# EAGLE library part SILABS_CP2102 (library johnmamish-silabs)
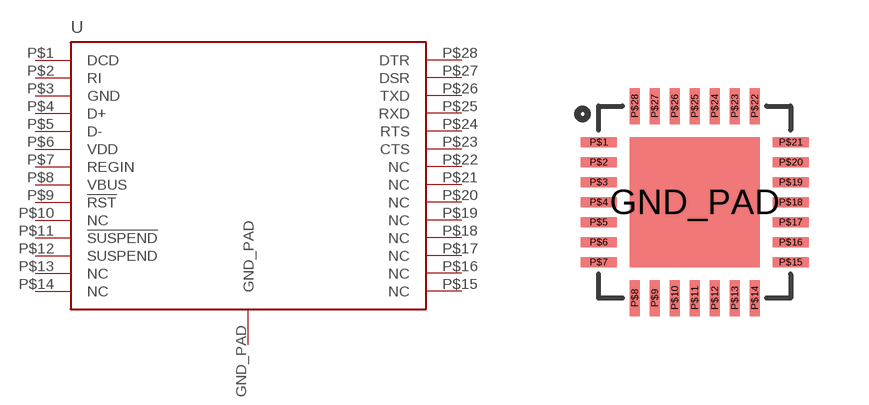
[diagram p0: symbol with the pads of SILABS_QFN28; footprint SILABS_QFN28]

Designator prefix -

## SILABS_CP2102  [SILABS_QFN28]
GND_PAD  GND_PAD
P$1  DCD
P$2  RI
P$3  GND
P$4  D+
P$5  D-
P$6  VDD
P$7  REGIN
P$8  VBUS
P$9  !RST!
P$10  NC
P$11  !SUSPEND!
P$12  SUSPEND
P$13  NC
P$14  NC
P$15  NC
P$16  NC
P$17  NC
P$18  NC
P$19  NC
P$20  NC
P$21  NC
P$22  NC
P$23  CTS
P$24  RTS
P$25  RXD
P$26  TXD
P$27  DSR
P$28  DTR

## Footprint SILABS_QFN28 (pad centres in mm)
smd 3.25 x 3.25: GND_PAD 2.4,-1.5
smd 0.9 x 0.25: P$1 0,0; P$2 0,-0.5; P$3 0,-1; P$4 0,-1.5; P$5 0,-2; P$6 0,-2.5; P$7 0,-3; P$15 4.8,-3; P$16 4.8,-2.5; P$17 4.8,-2; P$18 4.8,-1.5; P$19 4.8,-1; P$20 4.8,-0.5; P$21 4.8,0
smd 0.25 x 0.9: P$8 0.9,-3.9; P$9 1.4,-3.9; P$10 1.9,-3.9; P$11 2.4,-3.9; P$12 2.9,-3.9; P$13 3.4,-3.9; P$14 3.9,-3.9; P$22 3.9,0.9; P$23 3.4,0.9; P$24 2.9,0.9; P$25 2.4,0.9; P$26 1.9,0.9; P$27 1.4,0.9; P$28 0.9,0.9